# EAGLE library part ST232B/C (library IC & Transistor)
SMD RS232 Driver ST232B/C
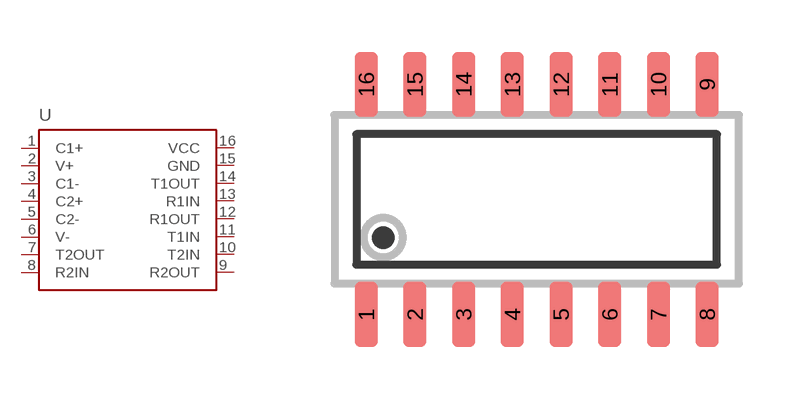
[diagram p54: symbol with the pads of SOIC-16N; footprint SOIC-16N]

Designator prefix -

## ST232B/C_(SOIC-16N), ST232B/C_ST232CD_(SOIC-16N) (CYTRON-PC: S-IC-ST232CD-SO16; DESC: S RS232 Driver ST232CD SO16; MF: ST; MPN: ST232CD)  [SOIC-16N]
1  C1+
2  V+
3  C1-
4  C2+
5  C2-
6  V-
7  T2OUT
8  R2IN
9  R2OUT
10  T2IN
11  T1IN
12  R1OUT
13  R1IN
14  T1OUT
15  GND
16  VCC

## Footprint SOIC-16N (pad centres in mm)
Small Outline Integrated Circuit (SOIC) Narrow (JEDEC) SOIC Package Size: 9.90 x 3.90mm / 10.55 x 4.4mm Lead Pitch: 1.27mm Created by: OoiBP
smd 0.6 x 1.7: 1 -4.445,-3; 2 -3.175,-3; 3 -1.905,-3; 4 -0.635,-3; 5 0.635,-3; 6 1.905,-3; 7 3.175,-3; 8 4.445,-3; 9 4.445,3; 10 3.175,3; 11 1.905,3; 12 0.635,3; 13 -0.635,3; 14 -1.905,3; 15 -3.175,3; 16 -4.445,3